# Altium footprint library PcbLib1.PcbLib: 14 footprints
Each footprint in its own frame and in the unit in brackets; x right, y up, seen from the top. Pads: shape width x height; smd on the part's side, far side on the other; paste and mask are expansions set on the pad; w line width, h text height; cw(c..) or ccw(c..) is an arc to the next point about the centre after c.
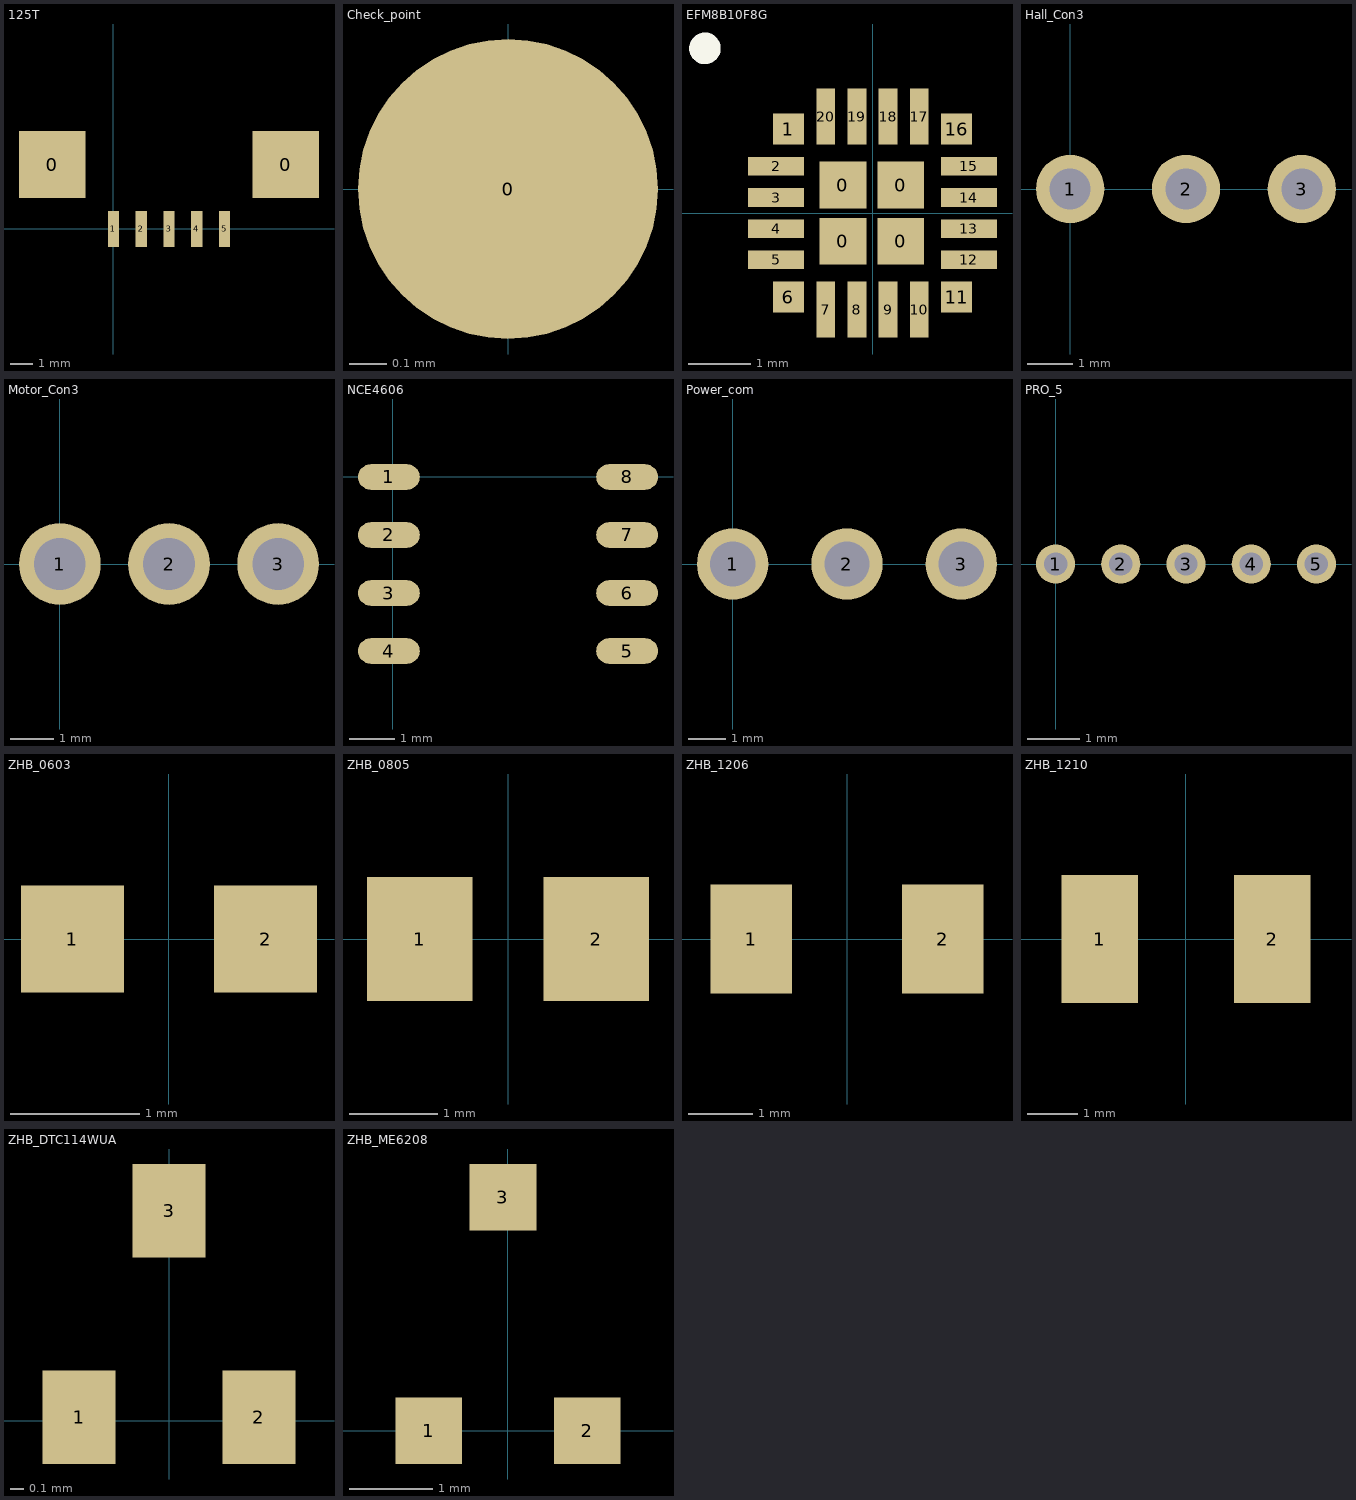
[diagram p0: the footprints below, top view; thin cyan lines are the x and y axes]

## 125T [mm]
pads (7):
  rect 3x3 smd: 0(-2.75,2.9) 0(7.75,2.9)
  rect 0.5x1.6 smd: 1(0,0) 2(1.25,0) 3(2.5,0) 4(3.75,0) 5(5,0)

## Check_point [mm]
pads (1):
  round 0.8 smd: 0(0,0)

## EFM8B10F8G [mm]
pads (24):
  rect 0.75x0.75 smd: 0(-0.475,-0.45) 0(-0.475,0.45) 0(0.455,-0.45) 0(0.455,0.45)
  rect 0.5x0.5 smd: 1(-1.35,1.35) 6(-1.35,-1.35) 11(1.35,-1.35) 16(1.35,1.35)
  rect 0.9x0.3 smd: 2(-1.55,0.75) 3(-1.55,0.25) 4(-1.55,-0.25) 5(-1.55,-0.75) 12(1.55,-0.75) 13(1.55,-0.25) 14(1.55,0.25) 15(1.55,0.75)
  rect 0.3x0.9 smd: 7(-0.75,-1.55) 8(-0.25,-1.55) 9(0.25,-1.55) 10(0.75,-1.55) 17(0.75,1.55) 18(0.25,1.55) 19(-0.25,1.55) 20(-0.75,1.55)
Top Overlay:
  circle w0.254: c-2.693,2.647 r0.127

## Hall_Con3 [mm]
pads (3):
  round 1.5 hole 0.9: 1(0,0) 2(2.54,0) 3(5.08,0)

## Motor_Con3 [mm]
pads (3):
  round 1.9 hole 1.2: 1(0,0) 2(2.54,0) 3(5.08,0)

## NCE4606 [mm]
pads (8):
  oval 1.354x0.559 smd: 1(-0.08,0) 2(-0.08,-1.27) 3(-0.08,-2.54) 4(-0.08,-3.81) 5(5.134,-3.81) 6(5.134,-2.54) 7(5.134,-1.27) 8(5.134,0)

## Power_com [mm]
pads (3):
  round 1.9 hole 1.2: 1(0,0) 2(3.04,0) 3(6.08,0)

## PRO_5 [mm]
pads (5):
  round 0.75 hole 0.45: 1(0,0) 2(1.25,0) 3(2.5,0) 4(3.75,0) 5(5,0)

## ZHB_0603 [mm]
pads (2):
  rect 0.8x0.83 smd: 1(-0.75,0) 2(0.75,0)

## ZHB_0805 [mm]
pads (2):
  rect 1.2x1.4 smd: 1(-1,0) 2(1,0)

## ZHB_1206 [mm]
pads (2):
  rect 1.28x1.7 smd: 1(-1.5,0) 2(1.5,0)

## ZHB_1210 [mm]
pads (2):
  rect 1.52x2.54 smd: 1(-1.71,0) 2(1.71,0)

## ZHB_DTC114WUA [mm]
pads (3):
  rect 0.55x0.7 smd: 1(-0.675,0.025) 2(0.675,0.025) 3(0,1.575)

## ZHB_ME6208 [mm]
pads (3):
  rect 0.8x0.8 smd: 1(-0.95,0) 2(0.95,0) 3(-0.061,2.8)